# Altium footprint library ESP Programming.PcbLib: 2 footprints
Each footprint in its own frame and in the unit in brackets; x right, y up, seen from the top. Pads: shape width x height; smd on the part's side, far side on the other; paste and mask are expansions set on the pad; w line width, h text height; cw(c..) or ccw(c..) is an arc to the next point about the centre after c.
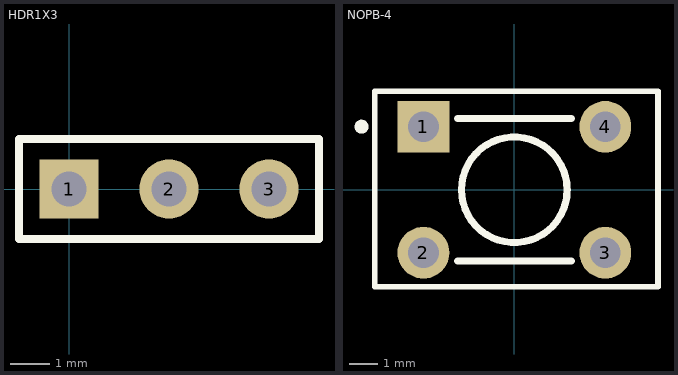
[diagram p0: the footprints below, top view; thin cyan lines are the x and y axes]

## HDR1X3 [mm] "Connector; Header; 3 Position"
height 1.2
pads (3):
  rect 1.5x1.5 hole 0.9: 1(0,0)
  round 1.5 hole 0.9: 2(2.54,0) 3(5.08,0)
Top Overlay:
  lines w0.2: -1.27,-1.27 -1.27,1.27 6.35,1.27 6.35,-1.27 -1.27,-1.27
3D body: height 8.22, standoff -2.98, extent -1.17,-1.246 6.45,1.253

## NOPB-4 [mm] "Switch; 4 Leads"
pads (4):
  rect 1.85x1.85 hole 1.1: 1(-3.25,2.25)
  round 1.85 hole 1.1: 2(-3.25,-2.25) 3(3.25,-2.25) 4(3.25,2.25)
Top Overlay:
  circle w0.25: c-5.461,2.254 r0.125
  circle w0.254: c0,0 r1.888
  lines w0.2: -4.99,-3.465 -4.99,3.52 5.132,3.52 5.132,-3.465 -4.99,-3.465
  lines w0.254: -2.032,-2.54 2.032,-2.54 ; -2.032,2.54 2.032,2.54